# Altium footprint library SOT323_SC70.PcbLib: 1 footprints
Each footprint in its own frame and in the unit in brackets; x right, y up, seen from the top. Pads: shape width x height; smd on the part's side, far side on the other; paste and mask are expansions set on the pad; w line width, h text height; cw(c..) or ccw(c..) is an arc to the next point about the centre after c.
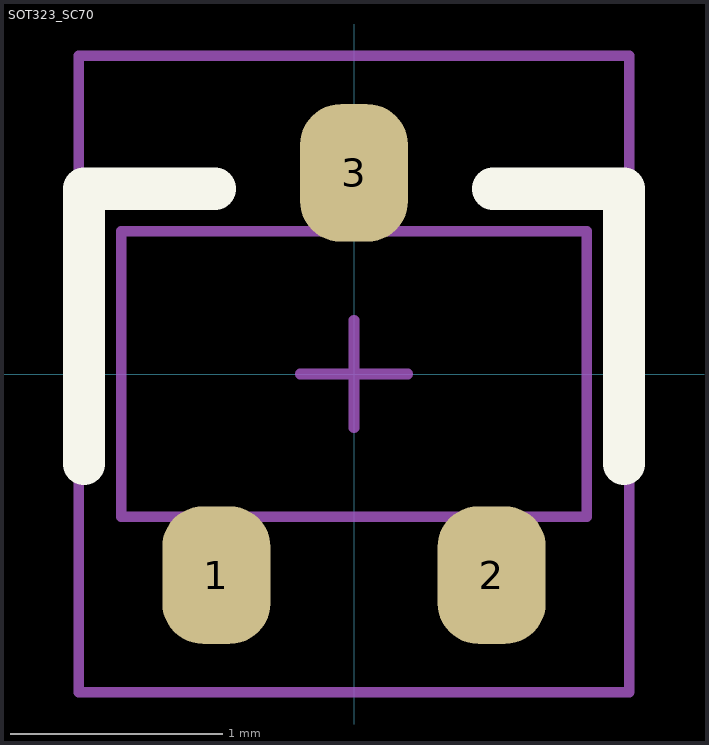
[diagram p0: the footprint, top view; thin cyan lines are the x and y axes]

## SOT323_SC70 [mm]
pads (3):
  rrect75% 0.51x0.65 smd mask+0.05: 1(-0.65,-0.95) 2(0.65,-0.95) 3(0,0.95)
Top Overlay:
  lines w0.2: -1.275,-0.425 -1.275,0.875 -0.657,0.875 ; 0.657,0.875 1.275,0.875 1.275,-0.425
Top Assembly:
  lines w0.05: -1.1,-0.675 -1.1,0.675 1.1,0.675 1.1,-0.675 -1.1,-0.675
Top Courtyard:
  lines w0.05: -0.254,0 0.254,0 ; 0,-0.254 0,0.254 ; -1.3,-1.503 -1.3,1.503 1.3,1.503 1.3,-1.502 -1.3,-1.503
3D body "SOT323.stp": height 1, standoff 0, extent -1.075,-1.047 1.075,1.067